# Altium schematic symbol library kmilo17pet-NSC_Switcher.SchLib: 2226 symbols (part 32 of 59)
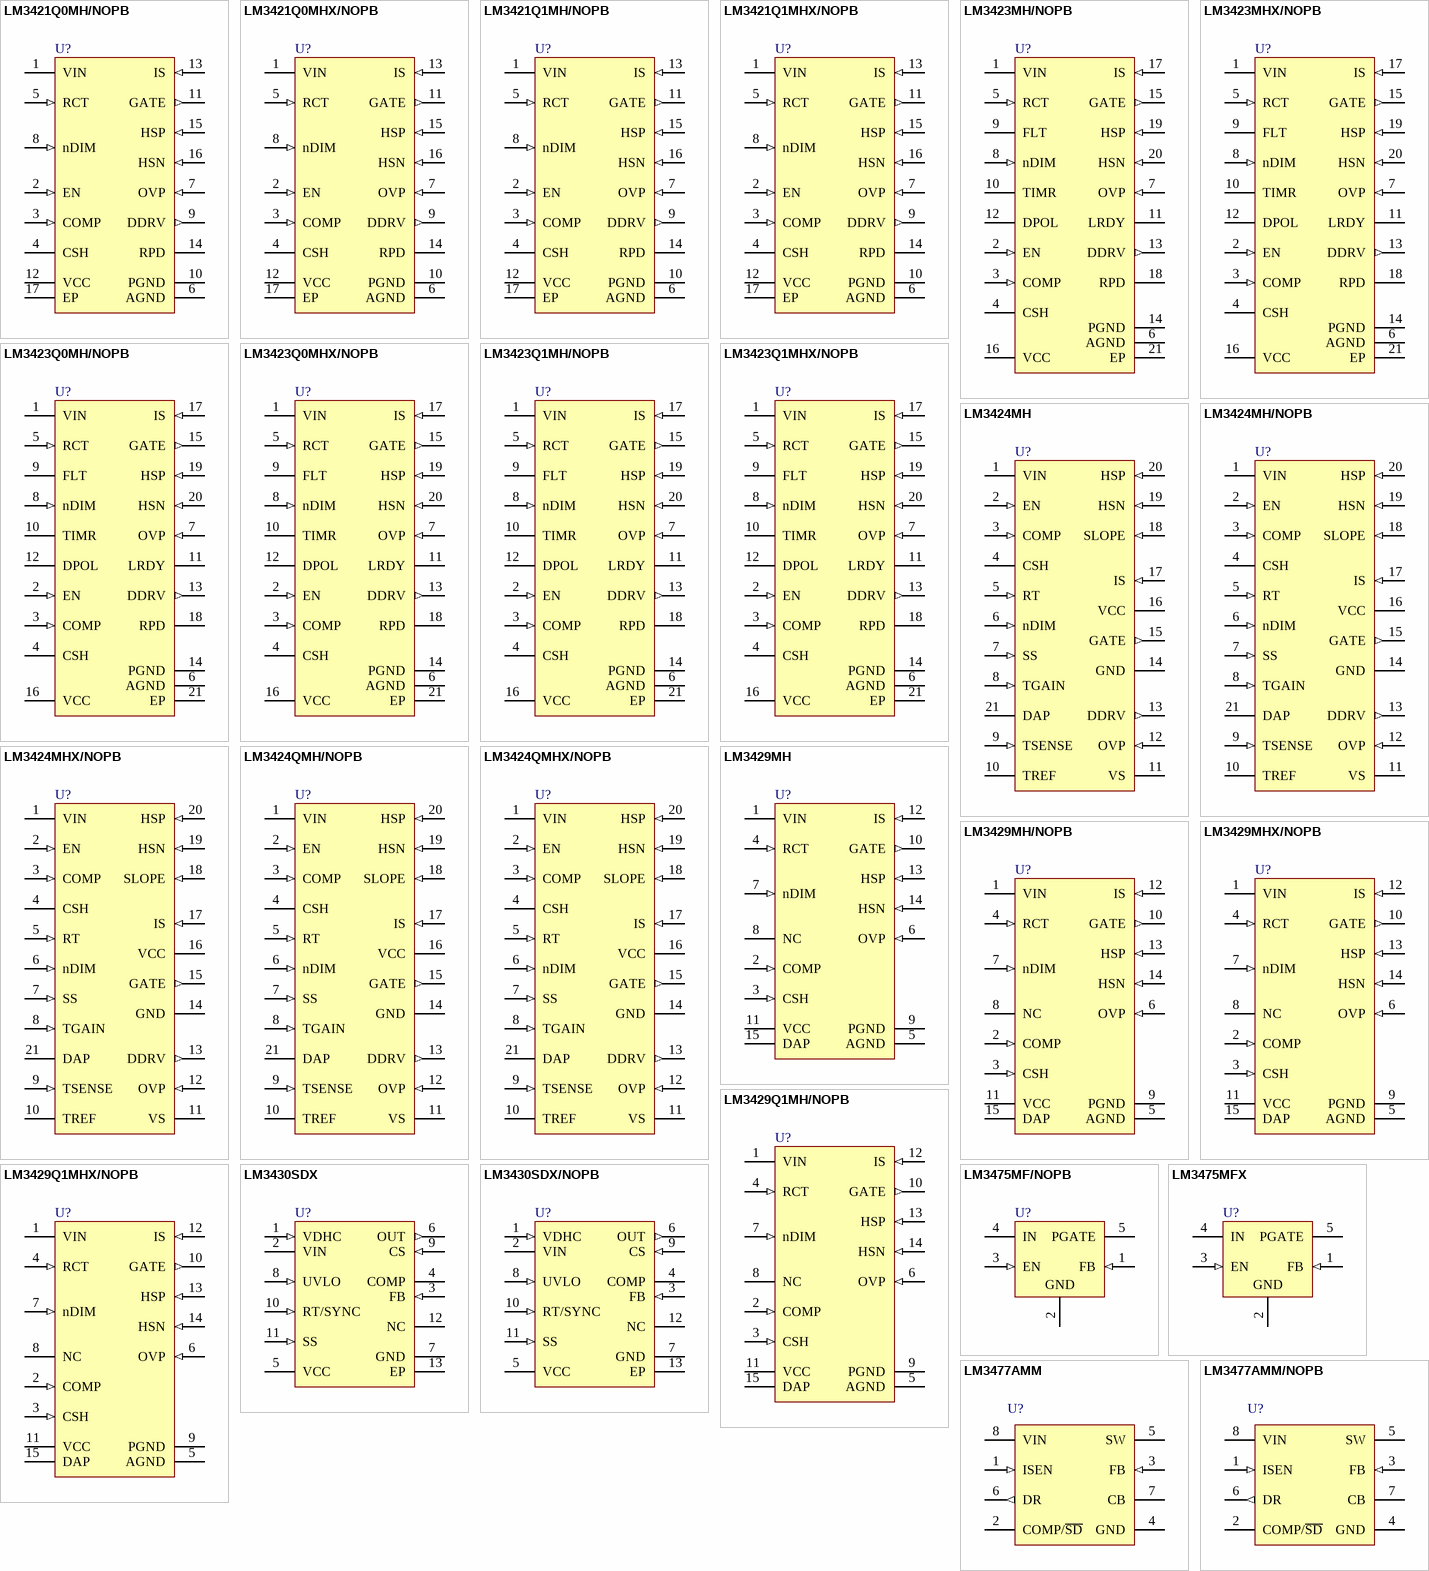
[diagram p100: symbols LM3421Q0MH/NOPB to LM3477AMM/NOPB]

## LM3423MHX/NOPB
designator U?
N-Channel Controllers for Constant Current LED Drivers, 20-pin TSSOP-EP, Pb-Free; PartNumber: LM3423MHX/NOPB; Manufacturer: National Semiconductor; PackageTopMarking: NSUZXYTT*LM3423*MH; PowerWise: Y; CompType: Switcher; DatasheetVersion: Jan-2010; PackageVersion: revC, Jul-2006; PackageReference: MXA20A; PackageDescription: Molded TSSOP, Jedec, 6.5 x 4.4 x 0.9mm Body, 20 Lead, 0.65mm Pitch, Exposed Pad; RoHS: Y; PinCount: 20; High-Reliability: Y; Code_JEDEC: MO-153-ACT; ComponentLink1Description: Manufacturer URL; ComponentLink1URL: http://www.national.com/; ComponentLink2Description: LM3423 Datasheet; ComponentLink2URL: http://www.national.com/ds/LM/LM3423.pdf; ComponentLink3Description: LM3423 Web Page; ComponentLink3URL: http://www.national.com/pf/LM/LM3423.html; ComponentLink4Description: MXA20A Package Page; ComponentLink4URL: http://www.national.com/packaging/folders/mxa20a.html
footprint MXA20A_N (TSOP, 20-Leads, Body 6.5x4.4mm, Pitch 0.65mm, Thermal Pad, IPC Medium Density)
footprint MXA20A_L (TSOP, 20-Leads, Body 6.5x4.4mm, Pitch 0.65mm, Thermal Pad, IPC High Density)
footprint MXA20A_M (TSOP, 20-Leads, Body 6.5x4.4mm, Pitch 0.65mm, Thermal Pad, IPC Low Density)
pins: 1 VIN (power), 2 EN (in), 3 COMP (in), 4 CSH, 5 RCT (in), 6 AGND (power), 7 OVP (in), 8 nDIM (in), 9 FLT (oc), 10 TIMR, 11 LRDY (oc), 12 DPOL, 13 DDRV (out), 14 PGND (power), 15 GATE (out), 16 VCC (power), 17 IS (in), 18 RPD (oc), 19 HSP (in), 20 HSN (in), 21 EP (power)

## LM3423Q0MH/NOPB
designator U?
N-Channel Controllers for Constant Current LED Drivers, 20-pin TSSOP-EP, Pb-Free; PartNumber: LM3423Q0MH/NOPB; Manufacturer: National Semiconductor; PackageTopMarking: NSUZXYTT*LM3423*Q0MH; PowerWise: Y; CompType: Switcher; DatasheetVersion: Jan-2010; PackageVersion: revC, Jul-2006; PackageReference: MXA20A; PackageDescription: Molded TSSOP, Jedec, 6.5 x 4.4 x 0.9mm Body, 20 Lead, 0.65mm Pitch, Exposed Pad; RoHS: Y; PinCount: 20; High-Reliability: Y; Code_JEDEC: MO-153-ACT; ComponentLink1Description: Manufacturer URL; ComponentLink1URL: http://www.national.com/; ComponentLink2Description: LM3423 Datasheet; ComponentLink2URL: http://www.national.com/ds/LM/LM3423.pdf; ComponentLink3Description: LM3423 Web Page; ComponentLink3URL: http://www.national.com/pf/LM/LM3423.html; ComponentLink4Description: MXA20A Package Page; ComponentLink4URL: http://www.national.com/packaging/folders/mxa20a.html
footprint MXA20A_N (TSOP, 20-Leads, Body 6.5x4.4mm, Pitch 0.65mm, Thermal Pad, IPC Medium Density)
footprint MXA20A_L (TSOP, 20-Leads, Body 6.5x4.4mm, Pitch 0.65mm, Thermal Pad, IPC High Density)
footprint MXA20A_M (TSOP, 20-Leads, Body 6.5x4.4mm, Pitch 0.65mm, Thermal Pad, IPC Low Density)
pins: 1 VIN (power), 2 EN (in), 3 COMP (in), 4 CSH, 5 RCT (in), 6 AGND (power), 7 OVP (in), 8 nDIM (in), 9 FLT (oc), 10 TIMR, 11 LRDY (oc), 12 DPOL, 13 DDRV (out), 14 PGND (power), 15 GATE (out), 16 VCC (power), 17 IS (in), 18 RPD (oc), 19 HSP (in), 20 HSN (in), 21 EP (power)

## LM3423Q0MHX/NOPB
designator U?
N-Channel Controllers for Constant Current LED Drivers, 20-pin TSSOP-EP, Pb-Free; PartNumber: LM3423Q0MHX/NOPB; Manufacturer: National Semiconductor; PackageTopMarking: NSUZXYTT*LM3423*Q0MH; PowerWise: Y; CompType: Switcher; DatasheetVersion: Jan-2010; PackageVersion: revC, Jul-2006; PackageReference: MXA20A; PackageDescription: Molded TSSOP, Jedec, 6.5 x 4.4 x 0.9mm Body, 20 Lead, 0.65mm Pitch, Exposed Pad; RoHS: Y; PinCount: 20; High-Reliability: Y; Code_JEDEC: MO-153-ACT; ComponentLink1Description: Manufacturer URL; ComponentLink1URL: http://www.national.com/; ComponentLink2Description: LM3423 Datasheet; ComponentLink2URL: http://www.national.com/ds/LM/LM3423.pdf; ComponentLink3Description: LM3423 Web Page; ComponentLink3URL: http://www.national.com/pf/LM/LM3423.html; ComponentLink4Description: MXA20A Package Page; ComponentLink4URL: http://www.national.com/packaging/folders/mxa20a.html
footprint MXA20A_N (TSOP, 20-Leads, Body 6.5x4.4mm, Pitch 0.65mm, Thermal Pad, IPC Medium Density)
footprint MXA20A_L (TSOP, 20-Leads, Body 6.5x4.4mm, Pitch 0.65mm, Thermal Pad, IPC High Density)
footprint MXA20A_M (TSOP, 20-Leads, Body 6.5x4.4mm, Pitch 0.65mm, Thermal Pad, IPC Low Density)
pins: 1 VIN (power), 2 EN (in), 3 COMP (in), 4 CSH, 5 RCT (in), 6 AGND (power), 7 OVP (in), 8 nDIM (in), 9 FLT (oc), 10 TIMR, 11 LRDY (oc), 12 DPOL, 13 DDRV (out), 14 PGND (power), 15 GATE (out), 16 VCC (power), 17 IS (in), 18 RPD (oc), 19 HSP (in), 20 HSN (in), 21 EP (power)

## LM3423Q1MH/NOPB
designator U?
N-Channel Controllers for Constant Current LED Drivers, 20-pin TSSOP-EP, Pb-Free; PartNumber: LM3423Q1MH/NOPB; Manufacturer: National Semiconductor; PackageTopMarking: NSUZXYTT*LM3423*Q1MH; PowerWise: N; CompType: Switcher; High-Reliability: Y; DatasheetVersion: Jan-2010; PackageVersion: revC, Jul-2006; PackageReference: MXA20A; PackageDescription: Molded TSSOP, Jedec, 6.5 x 4.4 x 0.9mm Body, 20 Lead, 0.65mm Pitch, Exposed Pad; RoHS: Y; PinCount: 20; Code_JEDEC: MO-153-ACT; ComponentLink1Description: Manufacturer URL; ComponentLink1URL: http://www.national.com/; ComponentLink2Description: LM3423 Datasheet; ComponentLink2URL: http://www.national.com/ds/LM/LM3423.pdf; ComponentLink3Description: LM3423 Web Page; ComponentLink3URL: http://www.national.com/pf/LM/LM3423.html; ComponentLink4Description: MXA20A Package Page; ComponentLink4URL: http://www.national.com/packaging/folders/mxa20a.html
footprint MXA20A_N (TSOP, 20-Leads, Body 6.5x4.4mm, Pitch 0.65mm, Thermal Pad, IPC Medium Density)
footprint MXA20A_L (TSOP, 20-Leads, Body 6.5x4.4mm, Pitch 0.65mm, Thermal Pad, IPC High Density)
footprint MXA20A_M (TSOP, 20-Leads, Body 6.5x4.4mm, Pitch 0.65mm, Thermal Pad, IPC Low Density)
pins: 1 VIN (power), 2 EN (in), 3 COMP (in), 4 CSH, 5 RCT (in), 6 AGND (power), 7 OVP (in), 8 nDIM (in), 9 FLT (oc), 10 TIMR, 11 LRDY (oc), 12 DPOL, 13 DDRV (out), 14 PGND (power), 15 GATE (out), 16 VCC (power), 17 IS (in), 18 RPD (oc), 19 HSP (in), 20 HSN (in), 21 EP (power)

## LM3423Q1MHX/NOPB
designator U?
N-Channel Controllers for Constant Current LED Drivers, 20-pin TSSOP-EP, Pb-Free; PartNumber: LM3423Q1MHX/NOPB; Manufacturer: National Semiconductor; PackageTopMarking: NSUZXYTT*LM3423*Q1MH; PowerWise: N; CompType: Switcher; High-Reliability: Y; DatasheetVersion: Jan-2010; PackageVersion: revC, Jul-2006; PackageReference: MXA20A; PackageDescription: Molded TSSOP, Jedec, 6.5 x 4.4 x 0.9mm Body, 20 Lead, 0.65mm Pitch, Exposed Pad; RoHS: Y; PinCount: 20; Code_JEDEC: MO-153-ACT; ComponentLink1Description: Manufacturer URL; ComponentLink1URL: http://www.national.com/; ComponentLink2Description: LM3423 Datasheet; ComponentLink2URL: http://www.national.com/ds/LM/LM3423.pdf; ComponentLink3Description: LM3423 Web Page; ComponentLink3URL: http://www.national.com/pf/LM/LM3423.html; ComponentLink4Description: MXA20A Package Page; ComponentLink4URL: http://www.national.com/packaging/folders/mxa20a.html
footprint MXA20A_N (TSOP, 20-Leads, Body 6.5x4.4mm, Pitch 0.65mm, Thermal Pad, IPC Medium Density)
footprint MXA20A_L (TSOP, 20-Leads, Body 6.5x4.4mm, Pitch 0.65mm, Thermal Pad, IPC High Density)
footprint MXA20A_M (TSOP, 20-Leads, Body 6.5x4.4mm, Pitch 0.65mm, Thermal Pad, IPC Low Density)
pins: 1 VIN (power), 2 EN (in), 3 COMP (in), 4 CSH, 5 RCT (in), 6 AGND (power), 7 OVP (in), 8 nDIM (in), 9 FLT (oc), 10 TIMR, 11 LRDY (oc), 12 DPOL, 13 DDRV (out), 14 PGND (power), 15 GATE (out), 16 VCC (power), 17 IS (in), 18 RPD (oc), 19 HSP (in), 20 HSN (in), 21 EP (power)

## LM3424MH
designator U?
Constant Current N-Channel Controller with Thermal Foldback for Driving LEDs, 20-pin TSSOP-EP; PartNumber: LM3424MH; Manufacturer: National Semiconductor; PackageTopMarking: NSUZXYTT*LM3424*MH; PowerWise: Y; CompType: Switcher; DatasheetVersion: Oct-2009; PackageVersion: revC, Jul-2006; PackageReference: MXA20A; PackageDescription: Molded TSSOP, Jedec, 6.5 x 4.4 x 0.9mm Body, 20 Lead, 0.65mm Pitch, Exposed Pad; RoHS: Y; PinCount: 20; High-Reliability: Y; Code_JEDEC: MO-153-ACT; ComponentLink1Description: Manufacturer URL; ComponentLink1URL: http://www.national.com/; ComponentLink2Description: LM3424 Datasheet; ComponentLink2URL: http://www.national.com/ds/LM/LM3424.pdf; ComponentLink3Description: LM3424 Web Page; ComponentLink3URL: http://www.national.com/pf/LM/LM3424.html; ComponentLink4Description: MXA20A Package Page; ComponentLink4URL: http://www.national.com/packaging/folders/mxa20a.html
footprint MXA20A_N (TSOP, 20-Leads, Body 6.5x4.4mm, Pitch 0.65mm, Thermal Pad, IPC Medium Density)
footprint MXA20A_L (TSOP, 20-Leads, Body 6.5x4.4mm, Pitch 0.65mm, Thermal Pad, IPC High Density)
footprint MXA20A_M (TSOP, 20-Leads, Body 6.5x4.4mm, Pitch 0.65mm, Thermal Pad, IPC Low Density)
pins: 1 VIN (power), 2 EN (in), 3 COMP (in), 4 CSH, 5 RT (in), 6 nDIM (in), 7 SS (in), 8 TGAIN (in), 9 TSENSE (in), 10 TREF, 11 VS (power), 12 OVP (in), 13 DDRV (out), 14 GND (power), 15 GATE (out), 16 VCC (power), 17 IS (in), 18 SLOPE (in), 19 HSN (in), 20 HSP (in), 21 DAP (power)

## LM3424MH/NOPB
designator U?
Constant Current N-Channel Controller with Thermal Foldback for Driving LEDs, 20-pin TSSOP-EP, Pb-Free; PartNumber: LM3424MH/NOPB; Manufacturer: National Semiconductor; PackageTopMarking: NSUZXYTT*LM3424*MH; PowerWise: Y; CompType: Switcher; DatasheetVersion: Oct-2009; PackageVersion: revC, Jul-2006; PackageReference: MXA20A; PackageDescription: Molded TSSOP, Jedec, 6.5 x 4.4 x 0.9mm Body, 20 Lead, 0.65mm Pitch, Exposed Pad; RoHS: Y; PinCount: 20; High-Reliability: Y; Code_JEDEC: MO-153-ACT; ComponentLink1Description: Manufacturer URL; ComponentLink1URL: http://www.national.com/; ComponentLink2Description: LM3424 Datasheet; ComponentLink2URL: http://www.national.com/ds/LM/LM3424.pdf; ComponentLink3Description: LM3424 Web Page; ComponentLink3URL: http://www.national.com/pf/LM/LM3424.html; ComponentLink4Description: MXA20A Package Page; ComponentLink4URL: http://www.national.com/packaging/folders/mxa20a.html
footprint MXA20A_N (TSOP, 20-Leads, Body 6.5x4.4mm, Pitch 0.65mm, Thermal Pad, IPC Medium Density)
footprint MXA20A_L (TSOP, 20-Leads, Body 6.5x4.4mm, Pitch 0.65mm, Thermal Pad, IPC High Density)
footprint MXA20A_M (TSOP, 20-Leads, Body 6.5x4.4mm, Pitch 0.65mm, Thermal Pad, IPC Low Density)
pins: 1 VIN (power), 2 EN (in), 3 COMP (in), 4 CSH, 5 RT (in), 6 nDIM (in), 7 SS (in), 8 TGAIN (in), 9 TSENSE (in), 10 TREF, 11 VS (power), 12 OVP (in), 13 DDRV (out), 14 GND (power), 15 GATE (out), 16 VCC (power), 17 IS (in), 18 SLOPE (in), 19 HSN (in), 20 HSP (in), 21 DAP (power)

## LM3424MHX/NOPB
designator U?
Constant Current N-Channel Controller with Thermal Foldback for Driving LEDs, 20-pin TSSOP-EP, Pb-Free; PartNumber: LM3424MHX/NOPB; Manufacturer: National Semiconductor; PackageTopMarking: NSUZXYTT*LM3424*MH; PowerWise: Y; CompType: Switcher; DatasheetVersion: Oct-2009; PackageVersion: revC, Jul-2006; PackageReference: MXA20A; PackageDescription: Molded TSSOP, Jedec, 6.5 x 4.4 x 0.9mm Body, 20 Lead, 0.65mm Pitch, Exposed Pad; RoHS: Y; PinCount: 20; High-Reliability: Y; Code_JEDEC: MO-153-ACT; ComponentLink1Description: Manufacturer URL; ComponentLink1URL: http://www.national.com/; ComponentLink2Description: LM3424 Datasheet; ComponentLink2URL: http://www.national.com/ds/LM/LM3424.pdf; ComponentLink3Description: LM3424 Web Page; ComponentLink3URL: http://www.national.com/pf/LM/LM3424.html; ComponentLink4Description: MXA20A Package Page; ComponentLink4URL: http://www.national.com/packaging/folders/mxa20a.html
footprint MXA20A_N (TSOP, 20-Leads, Body 6.5x4.4mm, Pitch 0.65mm, Thermal Pad, IPC Medium Density)
footprint MXA20A_L (TSOP, 20-Leads, Body 6.5x4.4mm, Pitch 0.65mm, Thermal Pad, IPC High Density)
footprint MXA20A_M (TSOP, 20-Leads, Body 6.5x4.4mm, Pitch 0.65mm, Thermal Pad, IPC Low Density)
pins: 1 VIN (power), 2 EN (in), 3 COMP (in), 4 CSH, 5 RT (in), 6 nDIM (in), 7 SS (in), 8 TGAIN (in), 9 TSENSE (in), 10 TREF, 11 VS (power), 12 OVP (in), 13 DDRV (out), 14 GND (power), 15 GATE (out), 16 VCC (power), 17 IS (in), 18 SLOPE (in), 19 HSN (in), 20 HSP (in), 21 DAP (power)

## LM3424QMH/NOPB
designator U?
Constant Current N-Channel Controller with Thermal Foldback for Driving LEDs, 20-pin TSSOP-EP, Pb-Free; PartNumber: LM3424QMH/NOPB; Manufacturer: National Semiconductor; PackageTopMarking: NSUZXYTT*LM3424*QMH; PowerWise: Y; CompType: Switcher; DatasheetVersion: Oct-2009; PackageVersion: revC, Jul-2006; PackageReference: MXA20A; PackageDescription: Molded TSSOP, Jedec, 6.5 x 4.4 x 0.9mm Body, 20 Lead, 0.65mm Pitch, Exposed Pad; RoHS: Y; PinCount: 20; High-Reliability: Y; Code_JEDEC: MO-153-ACT; ComponentLink1Description: Manufacturer URL; ComponentLink1URL: http://www.national.com/; ComponentLink2Description: LM3424 Datasheet; ComponentLink2URL: http://www.national.com/ds/LM/LM3424.pdf; ComponentLink3Description: LM3424 Web Page; ComponentLink3URL: http://www.national.com/pf/LM/LM3424.html; ComponentLink4Description: MXA20A Package Page; ComponentLink4URL: http://www.national.com/packaging/folders/mxa20a.html
footprint MXA20A_N (TSOP, 20-Leads, Body 6.5x4.4mm, Pitch 0.65mm, Thermal Pad, IPC Medium Density)
footprint MXA20A_L (TSOP, 20-Leads, Body 6.5x4.4mm, Pitch 0.65mm, Thermal Pad, IPC High Density)
footprint MXA20A_M (TSOP, 20-Leads, Body 6.5x4.4mm, Pitch 0.65mm, Thermal Pad, IPC Low Density)
pins: 1 VIN (power), 2 EN (in), 3 COMP (in), 4 CSH, 5 RT (in), 6 nDIM (in), 7 SS (in), 8 TGAIN (in), 9 TSENSE (in), 10 TREF, 11 VS (power), 12 OVP (in), 13 DDRV (out), 14 GND (power), 15 GATE (out), 16 VCC (power), 17 IS (in), 18 SLOPE (in), 19 HSN (in), 20 HSP (in), 21 DAP (power)

## LM3424QMHX/NOPB
designator U?
Constant Current N-Channel Controller with Thermal Foldback for Driving LEDs, 20-pin TSSOP-EP, Pb-Free; PartNumber: LM3424QMHX/NOPB; Manufacturer: National Semiconductor; PackageTopMarking: NSUZXYTT*LM3424*QMH; PowerWise: Y; CompType: Switcher; DatasheetVersion: Oct-2009; PackageVersion: revC, Jul-2006; PackageReference: MXA20A; PackageDescription: Molded TSSOP, Jedec, 6.5 x 4.4 x 0.9mm Body, 20 Lead, 0.65mm Pitch, Exposed Pad; RoHS: Y; PinCount: 20; High-Reliability: Y; Code_JEDEC: MO-153-ACT; ComponentLink1Description: Manufacturer URL; ComponentLink1URL: http://www.national.com/; ComponentLink2Description: LM3424 Datasheet; ComponentLink2URL: http://www.national.com/ds/LM/LM3424.pdf; ComponentLink3Description: LM3424 Web Page; ComponentLink3URL: http://www.national.com/pf/LM/LM3424.html; ComponentLink4Description: MXA20A Package Page; ComponentLink4URL: http://www.national.com/packaging/folders/mxa20a.html
footprint MXA20A_N (TSOP, 20-Leads, Body 6.5x4.4mm, Pitch 0.65mm, Thermal Pad, IPC Medium Density)
footprint MXA20A_L (TSOP, 20-Leads, Body 6.5x4.4mm, Pitch 0.65mm, Thermal Pad, IPC High Density)
footprint MXA20A_M (TSOP, 20-Leads, Body 6.5x4.4mm, Pitch 0.65mm, Thermal Pad, IPC Low Density)
pins: 1 VIN (power), 2 EN (in), 3 COMP (in), 4 CSH, 5 RT (in), 6 nDIM (in), 7 SS (in), 8 TGAIN (in), 9 TSENSE (in), 10 TREF, 11 VS (power), 12 OVP (in), 13 DDRV (out), 14 GND (power), 15 GATE (out), 16 VCC (power), 17 IS (in), 18 SLOPE (in), 19 HSN (in), 20 HSP (in), 21 DAP (power)

## LM3429MH
designator U?
N-Channel Controller for Constant Current LED Drivers, 14-pin TSSOP-EP; PartNumber: LM3429MH; Manufacturer: National Semiconductor; PackageTopMarking: NSUZXYTT*LM3429*MH; PowerWise: Y; CompType: Switcher; DatasheetVersion: Jan-2010; PackageVersion: revA, Feb-2003; PackageReference: MXA14A; PackageDescription: Molded TSSOP, JEDEC, Exposed Pad, 5.0 x 4.4 x 0.9mm Body, 14 Lead, 0.65mm Pitch; RoHS: Y; PinCount: 14; High-Reliability: Y; Code_JEDEC: MO-153-ABT-1; ComponentLink1Description: Manufacturer URL; ComponentLink1URL: http://www.national.com/; ComponentLink2Description: LM3429 Datasheet; ComponentLink2URL: http://www.national.com/ds/LM/LM3429.pdf; ComponentLink3Description: LM3429 Web Page; ComponentLink3URL: http://www.national.com/pf/LM/LM3429.html; ComponentLink4Description: MXA14A Package Page; ComponentLink4URL: http://www.national.com/packaging/folders/mxa14a.html
footprint MXA14A_N (TSOP, 14-Leads, Body 5x4.4mm, Pitch 0.65mm, Thermal Pad, IPC Medium Density)
footprint MXA14A_L (TSOP, 14-Leads, Body 5x4.4mm, Pitch 0.65mm, Thermal Pad, IPC High Density)
footprint MXA14A_M (TSOP, 14-Leads, Body 5x4.4mm, Pitch 0.65mm, Thermal Pad, IPC Low Density)
pins: 1 VIN (power), 2 COMP (in), 3 CSH (in), 4 RCT (in), 5 AGND (power), 6 OVP (in), 7 nDIM (in), 8 NC, 9 PGND (power), 10 GATE (out), 11 VCC (power), 12 IS (in), 13 HSP (in), 14 HSN (in), 15 DAP (power)

## LM3429MH/NOPB
designator U?
N-Channel Controller for Constant Current LED Drivers, 14-pin TSSOP-EP, Pb-Free; PartNumber: LM3429MH/NOPB; Manufacturer: National Semiconductor; PackageTopMarking: NSUZXYTT*LM3429*MH; PowerWise: Y; CompType: Switcher; DatasheetVersion: Jan-2010; PackageVersion: revA, Feb-2003; PackageReference: MXA14A; PackageDescription: Molded TSSOP, JEDEC, Exposed Pad, 5.0 x 4.4 x 0.9mm Body, 14 Lead, 0.65mm Pitch; RoHS: Y; PinCount: 14; High-Reliability: Y; Code_JEDEC: MO-153-ABT-1; ComponentLink1Description: Manufacturer URL; ComponentLink1URL: http://www.national.com/; ComponentLink2Description: LM3429 Datasheet; ComponentLink2URL: http://www.national.com/ds/LM/LM3429.pdf; ComponentLink3Description: LM3429 Web Page; ComponentLink3URL: http://www.national.com/pf/LM/LM3429.html; ComponentLink4Description: MXA14A Package Page; ComponentLink4URL: http://www.national.com/packaging/folders/mxa14a.html
footprint MXA14A_N (TSOP, 14-Leads, Body 5x4.4mm, Pitch 0.65mm, Thermal Pad, IPC Medium Density)
footprint MXA14A_L (TSOP, 14-Leads, Body 5x4.4mm, Pitch 0.65mm, Thermal Pad, IPC High Density)
footprint MXA14A_M (TSOP, 14-Leads, Body 5x4.4mm, Pitch 0.65mm, Thermal Pad, IPC Low Density)
pins: 1 VIN (power), 2 COMP (in), 3 CSH (in), 4 RCT (in), 5 AGND (power), 6 OVP (in), 7 nDIM (in), 8 NC, 9 PGND (power), 10 GATE (out), 11 VCC (power), 12 IS (in), 13 HSP (in), 14 HSN (in), 15 DAP (power)

## LM3429MHX/NOPB
designator U?
N-Channel Controller for Constant Current LED Drivers, 14-pin TSSOP-EP, Pb-Free; PartNumber: LM3429MHX/NOPB; Manufacturer: National Semiconductor; PackageTopMarking: NSUZXYTT*LM3429*MH; PowerWise: Y; CompType: Switcher; DatasheetVersion: Jan-2010; PackageVersion: revA, Feb-2003; PackageReference: MXA14A; PackageDescription: Molded TSSOP, JEDEC, Exposed Pad, 5.0 x 4.4 x 0.9mm Body, 14 Lead, 0.65mm Pitch; RoHS: Y; PinCount: 14; High-Reliability: Y; Code_JEDEC: MO-153-ABT-1; ComponentLink1Description: Manufacturer URL; ComponentLink1URL: http://www.national.com/; ComponentLink2Description: LM3429 Datasheet; ComponentLink2URL: http://www.national.com/ds/LM/LM3429.pdf; ComponentLink3Description: LM3429 Web Page; ComponentLink3URL: http://www.national.com/pf/LM/LM3429.html; ComponentLink4Description: MXA14A Package Page; ComponentLink4URL: http://www.national.com/packaging/folders/mxa14a.html
footprint MXA14A_N (TSOP, 14-Leads, Body 5x4.4mm, Pitch 0.65mm, Thermal Pad, IPC Medium Density)
footprint MXA14A_L (TSOP, 14-Leads, Body 5x4.4mm, Pitch 0.65mm, Thermal Pad, IPC High Density)
footprint MXA14A_M (TSOP, 14-Leads, Body 5x4.4mm, Pitch 0.65mm, Thermal Pad, IPC Low Density)
pins: 1 VIN (power), 2 COMP (in), 3 CSH (in), 4 RCT (in), 5 AGND (power), 6 OVP (in), 7 nDIM (in), 8 NC, 9 PGND (power), 10 GATE (out), 11 VCC (power), 12 IS (in), 13 HSP (in), 14 HSN (in), 15 DAP (power)

## LM3429Q1MH/NOPB
designator U?
N-Channel Controller for Constant Current LED Drivers, 14-pin TSSOP-EP, Pb-Free; PartNumber: LM3429Q1MH/NOPB; Manufacturer: National Semiconductor; PackageTopMarking: NSUZXYTT*LM3429*Q1MH; PowerWise: N; CompType: Switcher; High-Reliability: Y; DatasheetVersion: Jan-2010; PackageVersion: revA, Feb-2003; PackageReference: MXA14A; PackageDescription: Molded TSSOP, JEDEC, Exposed Pad, 5.0 x 4.4 x 0.9mm Body, 14 Lead, 0.65mm Pitch; RoHS: Y; PinCount: 14; Code_JEDEC: MO-153-ABT-1; ComponentLink1Description: Manufacturer URL; ComponentLink1URL: http://www.national.com/; ComponentLink2Description: LM3429 Datasheet; ComponentLink2URL: http://www.national.com/ds/LM/LM3429.pdf; ComponentLink3Description: LM3429 Web Page; ComponentLink3URL: http://www.national.com/pf/LM/LM3429.html; ComponentLink4Description: MXA14A Package Page; ComponentLink4URL: http://www.national.com/packaging/folders/mxa14a.html
footprint MXA14A_N (TSOP, 14-Leads, Body 5x4.4mm, Pitch 0.65mm, Thermal Pad, IPC Medium Density)
footprint MXA14A_L (TSOP, 14-Leads, Body 5x4.4mm, Pitch 0.65mm, Thermal Pad, IPC High Density)
footprint MXA14A_M (TSOP, 14-Leads, Body 5x4.4mm, Pitch 0.65mm, Thermal Pad, IPC Low Density)
pins: 1 VIN (power), 2 COMP (in), 3 CSH (in), 4 RCT (in), 5 AGND (power), 6 OVP (in), 7 nDIM (in), 8 NC, 9 PGND (power), 10 GATE (out), 11 VCC (power), 12 IS (in), 13 HSP (in), 14 HSN (in), 15 DAP (power)

## LM3429Q1MHX/NOPB
designator U?
N-Channel Controller for Constant Current LED Drivers, 14-pin TSSOP-EP, Pb-Free; PartNumber: LM3429Q1MHX/NOPB; Manufacturer: National Semiconductor; PackageTopMarking: NSUZXYTT*LM3429*Q1MH; PowerWise: N; CompType: Switcher; High-Reliability: Y; DatasheetVersion: Jan-2010; PackageVersion: revA, Feb-2003; PackageReference: MXA14A; PackageDescription: Molded TSSOP, JEDEC, Exposed Pad, 5.0 x 4.4 x 0.9mm Body, 14 Lead, 0.65mm Pitch; RoHS: Y; PinCount: 14; Code_JEDEC: MO-153-ABT-1; ComponentLink1Description: Manufacturer URL; ComponentLink1URL: http://www.national.com/; ComponentLink2Description: LM3429 Datasheet; ComponentLink2URL: http://www.national.com/ds/LM/LM3429.pdf; ComponentLink3Description: LM3429 Web Page; ComponentLink3URL: http://www.national.com/pf/LM/LM3429.html; ComponentLink4Description: MXA14A Package Page; ComponentLink4URL: http://www.national.com/packaging/folders/mxa14a.html
footprint MXA14A_N (TSOP, 14-Leads, Body 5x4.4mm, Pitch 0.65mm, Thermal Pad, IPC Medium Density)
footprint MXA14A_L (TSOP, 14-Leads, Body 5x4.4mm, Pitch 0.65mm, Thermal Pad, IPC High Density)
footprint MXA14A_M (TSOP, 14-Leads, Body 5x4.4mm, Pitch 0.65mm, Thermal Pad, IPC Low Density)
pins: 1 VIN (power), 2 COMP (in), 3 CSH (in), 4 RCT (in), 5 AGND (power), 6 OVP (in), 7 nDIM (in), 8 NC, 9 PGND (power), 10 GATE (out), 11 VCC (power), 12 IS (in), 13 HSP (in), 14 HSN (in), 15 DAP (power)

## LM3430SDX
designator U?
Boost Controller for LED Backlighting, 12-pin LLP; PartNumber: LM3430SDX; Manufacturer: National Semiconductor; PackageTopMarking: ZXYTT*L3430; PowerWise: Y; CompType: Switcher; DatasheetVersion: Jan-2007; PackageVersion: revB, Jul-2008; PackageReference: SDF12A; PackageDescription: LLP, Plastic, Dual, 3 x 3 x 0.8mm Body, 12 Lead, 0.4mm Pitch, No Pullback; RoHS: N; PinCount: 12; High-Reliability: Y; ComponentLink1Description: Manufacturer URL; ComponentLink1URL: http://www.national.com/; ComponentLink2Description: LM3430 Datasheet; ComponentLink2URL: http://www.national.com/ds/LM/LM3430.pdf; ComponentLink3Description: LM3430 Web Page; ComponentLink3URL: http://www.national.com/pf/LM/LM3430.html; ComponentLink4Description: SDF12A Package Page; ComponentLink4URL: http://www.national.com/packaging/folders/sdf12a.html
footprint SDF12A (SON, 12-Leads, Body 3x3mm, Pitch 0.4mm, NSC Recommended)
pins: 1 VDHC (in), 2 VIN (power), 3 FB (in), 4 COMP, 5 VCC (power), 6 OUT (out), 7 GND (power), 8 UVLO (in), 9 CS (in), 10 RT/SYNC (in), 11 SS (in), 12 NC, 13 EP (power)

## LM3430SDX/NOPB
designator U?
Boost Controller for LED Backlighting, 12-pin LLP, Pb-Free; PartNumber: LM3430SDX/NOPB; Manufacturer: National Semiconductor; PackageTopMarking: ZXYTT*L3430; PowerWise: Y; CompType: Switcher; DatasheetVersion: Jan-2007; PackageVersion: revB, Jul-2008; PackageReference: SDF12A; PackageDescription: LLP, Plastic, Dual, 3 x 3 x 0.8mm Body, 12 Lead, 0.4mm Pitch, No Pullback; RoHS: Y; PinCount: 12; High-Reliability: Y; ComponentLink1Description: Manufacturer URL; ComponentLink1URL: http://www.national.com/; ComponentLink2Description: LM3430 Datasheet; ComponentLink2URL: http://www.national.com/ds/LM/LM3430.pdf; ComponentLink3Description: LM3430 Web Page; ComponentLink3URL: http://www.national.com/pf/LM/LM3430.html; ComponentLink4Description: SDF12A Package Page; ComponentLink4URL: http://www.national.com/packaging/folders/sdf12a.html
footprint SDF12A (SON, 12-Leads, Body 3x3mm, Pitch 0.4mm, NSC Recommended)
pins: 1 VDHC (in), 2 VIN (power), 3 FB (in), 4 COMP, 5 VCC (power), 6 OUT (out), 7 GND (power), 8 UVLO (in), 9 CS (in), 10 RT/SYNC (in), 11 SS (in), 12 NC, 13 EP (power)

## LM3475MF/NOPB
designator U?
Hysteretic PFET Buck Controller, 5-pin SOT-23, Pb-Free; PartNumber: LM3475MF/NOPB; Manufacturer: National Semiconductor; PackageTopMarking: S65B*XTT; PowerWise: N; CompType: Switcher; High-Reliability: Y; DatasheetVersion: Jan-2005; PackageVersion: revD, Aug-2008; PackageReference: MF05A; PackageDescription: Molded SOT-23, .115 x .063 x .040 in Body, 5 Lead, .0375 in Pitch; RoHS: Y; PinCount: 5; ComponentLink1Description: Manufacturer URL; ComponentLink1URL: http://www.national.com/; ComponentLink2Description: LM3475 Datasheet; ComponentLink2URL: http://www.national.com/ds/LM/LM3475.pdf; ComponentLink3Description: LM3475 Web Page; ComponentLink3URL: http://www.national.com/pf/LM/LM3475.html; ComponentLink4Description: MF05A Package Page; ComponentLink4URL: http://www.national.com/packaging/folders/mf05a.html
footprint MF05A_N (SOT23, 5-Leads, Body 2.9x1.6mm, Pitch 0.95mm, Lead Span 2.8mm, IPC Medium Density)
footprint MF05A_L (SOT23, 5-Leads, Body 2.9x1.6mm, Pitch 0.95mm, Lead Span 2.8mm, IPC High Density)
footprint MF05A_M (SOT23, 5-Leads, Body 2.9x1.6mm, Pitch 0.95mm, Lead Span 2.8mm, IPC Low Density)
pins: 1 FB (in), 2 GND (power), 3 EN (in), 4 IN (power), 5 PGATE (power)

## LM3475MFX
designator U?
Hysteretic PFET Buck Controller, 5-pin SOT-23; PartNumber: LM3475MFX; Manufacturer: National Semiconductor; PackageTopMarking: S65B*XTT; PowerWise: N; CompType: Switcher; High-Reliability: Y; DatasheetVersion: Jan-2005; PackageVersion: revD, Aug-2008; PackageReference: MF05A; PackageDescription: Molded SOT-23, .115 x .063 x .040 in Body, 5 Lead, .0375 in Pitch; RoHS: N; PinCount: 5; ComponentLink1Description: Manufacturer URL; ComponentLink1URL: http://www.national.com/; ComponentLink2Description: LM3475 Datasheet; ComponentLink2URL: http://www.national.com/ds/LM/LM3475.pdf; ComponentLink3Description: LM3475 Web Page; ComponentLink3URL: http://www.national.com/pf/LM/LM3475.html; ComponentLink4Description: MF05A Package Page; ComponentLink4URL: http://www.national.com/packaging/folders/mf05a.html
footprint MF05A_N (SOT23, 5-Leads, Body 2.9x1.6mm, Pitch 0.95mm, Lead Span 2.8mm, IPC Medium Density)
footprint MF05A_L (SOT23, 5-Leads, Body 2.9x1.6mm, Pitch 0.95mm, Lead Span 2.8mm, IPC High Density)
footprint MF05A_M (SOT23, 5-Leads, Body 2.9x1.6mm, Pitch 0.95mm, Lead Span 2.8mm, IPC Low Density)
pins: 1 FB (in), 2 GND (power), 3 EN (in), 4 IN (power), 5 PGATE (power)

## LM3477AMM
designator U?
High Efficiency High-Side N-Channel Controller for Switching Regulator, 8-pin MSOP; PartNumber: LM3477AMM; Manufacturer: National Semiconductor; PackageTopMarking: ZXTT*S13A; PowerWise: N; CompType: Switcher; High-Reliability: Y; DatasheetVersion: Jul-2004; PackageVersion: revF, Apr-2008; PackageReference: MUA08A; PackageDescription: MINI SOIC, .118 x .118 x .034in, 8 Lead, .0256in Pitch; RoHS: N; PinCount: 8; Code_JEDEC: MO-187-AA; ComponentLink1Description: Manufacturer URL; ComponentLink1URL: http://www.national.com/; ComponentLink2Description: LM3477 Datasheet; ComponentLink2URL: http://www.national.com/ds/LM/LM3477.pdf; ComponentLink3Description: LM3477 Web Page; ComponentLink3URL: http://www.national.com/pf/LM/LM3477.html; ComponentLink4Description: MUA08A Package Page; ComponentLink4URL: http://www.national.com/packaging/folders/mua08a.html
footprint MUA08A_N (TSOP, 8-Leads, Body 3x3mm, Pitch 0.65mm, IPC Medium Density)
footprint MUA08A_L (TSOP, 8-Leads, Body 3x3mm, Pitch 0.65mm, IPC High Density)
footprint MUA08A_M (TSOP, 8-Leads, Body 3x3mm, Pitch 0.65mm, IPC Low Density)
pins: 1 ISEN (in), 2 COMP/~{SD}, 3 FB (in), 4 GND (power), 5 SW (power), 6 DR (out), 7 CB, 8 VIN (power)

## LM3477AMM/NOPB
designator U?
High Efficiency High-Side N-Channel Controller for Switching Regulator, 8-pin MSOP, Pb-Free; PartNumber: LM3477AMM/NOPB; Manufacturer: National Semiconductor; PackageTopMarking: ZXTT*S13A; PowerWise: N; CompType: Switcher; High-Reliability: Y; DatasheetVersion: Jul-2004; PackageVersion: revF, Apr-2008; PackageReference: MUA08A; PackageDescription: MINI SOIC, .118 x .118 x .034in, 8 Lead, .0256in Pitch; RoHS: Y; PinCount: 8; Code_JEDEC: MO-187-AA; ComponentLink1Description: Manufacturer URL; ComponentLink1URL: http://www.national.com/; ComponentLink2Description: LM3477 Datasheet; ComponentLink2URL: http://www.national.com/ds/LM/LM3477.pdf; ComponentLink3Description: LM3477 Web Page; ComponentLink3URL: http://www.national.com/pf/LM/LM3477.html; ComponentLink4Description: MUA08A Package Page; ComponentLink4URL: http://www.national.com/packaging/folders/mua08a.html
footprint MUA08A_N (TSOP, 8-Leads, Body 3x3mm, Pitch 0.65mm, IPC Medium Density)
footprint MUA08A_L (TSOP, 8-Leads, Body 3x3mm, Pitch 0.65mm, IPC High Density)
footprint MUA08A_M (TSOP, 8-Leads, Body 3x3mm, Pitch 0.65mm, IPC Low Density)
pins: 1 ISEN (in), 2 COMP/~{SD}, 3 FB (in), 4 GND (power), 5 SW (power), 6 DR (out), 7 CB, 8 VIN (power)

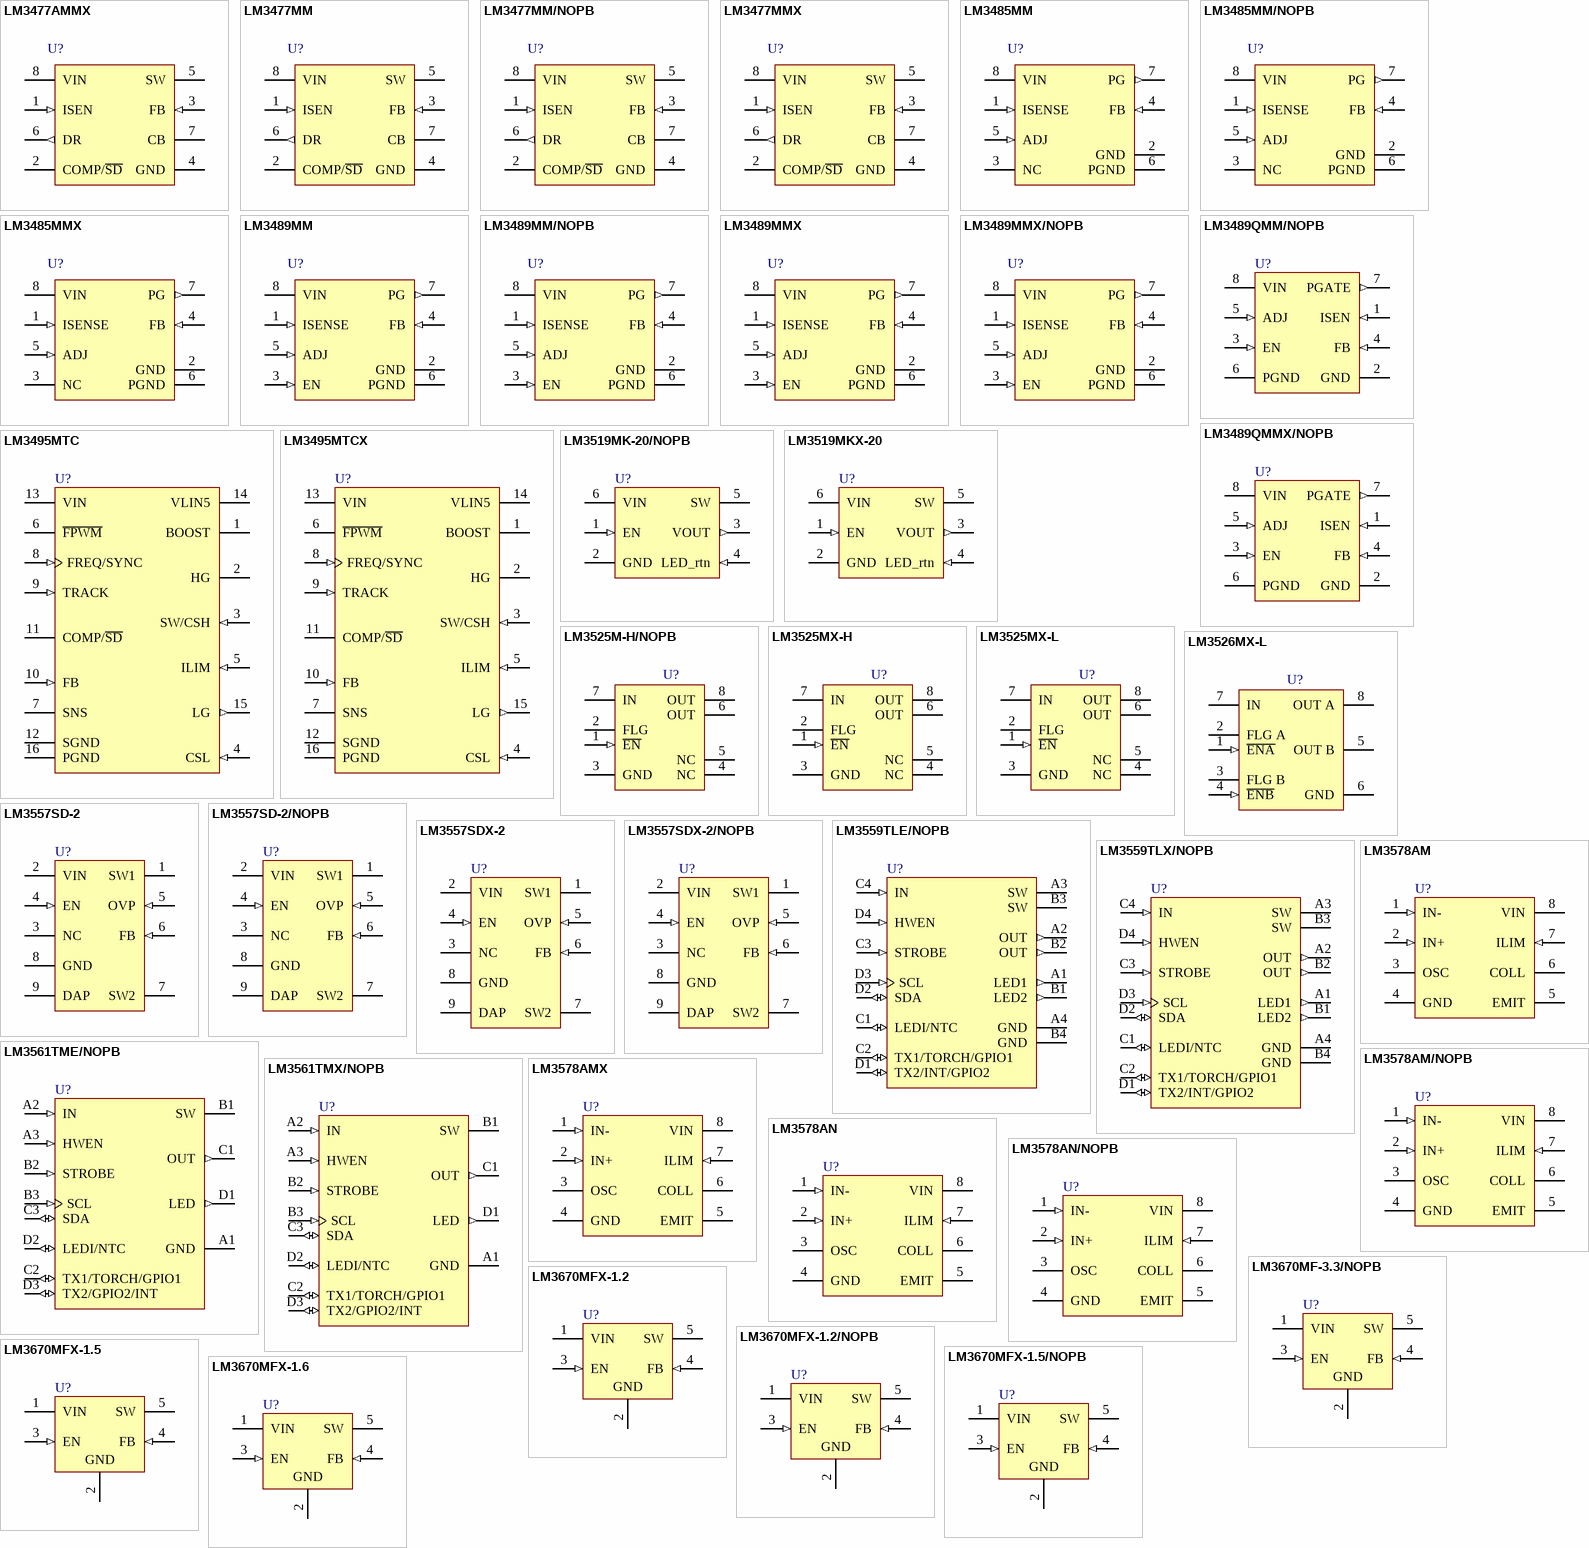
[diagram p35: symbols LM3477AMMX to LM3670MFX-1.6]

## LM3477AMMX
designator U?
High Efficiency High-Side N-Channel Controller for Switching Regulator, 8-pin MSOP; PartNumber: LM3477AMMX; Manufacturer: National Semiconductor; PackageTopMarking: ZXTT*S13A; PowerWise: N; CompType: Switcher; High-Reliability: Y; DatasheetVersion: Jul-2004; PackageVersion: revF, Apr-2008; PackageReference: MUA08A; PackageDescription: MINI SOIC, .118 x .118 x .034in, 8 Lead, .0256in Pitch; RoHS: N; PinCount: 8; Code_JEDEC: MO-187-AA; ComponentLink1Description: Manufacturer URL; ComponentLink1URL: http://www.national.com/; ComponentLink2Description: LM3477 Datasheet; ComponentLink2URL: http://www.national.com/ds/LM/LM3477.pdf; ComponentLink3Description: LM3477 Web Page; ComponentLink3URL: http://www.national.com/pf/LM/LM3477.html; ComponentLink4Description: MUA08A Package Page; ComponentLink4URL: http://www.national.com/packaging/folders/mua08a.html
footprint MUA08A_N (TSOP, 8-Leads, Body 3x3mm, Pitch 0.65mm, IPC Medium Density)
footprint MUA08A_L (TSOP, 8-Leads, Body 3x3mm, Pitch 0.65mm, IPC High Density)
footprint MUA08A_M (TSOP, 8-Leads, Body 3x3mm, Pitch 0.65mm, IPC Low Density)
pins: 1 ISEN (in), 2 COMP/~{SD}, 3 FB (in), 4 GND (power), 5 SW (power), 6 DR (out), 7 CB, 8 VIN (power)

## LM3477MM
designator U?
High Efficiency High-Side N-Channel Controller for Switching Regulator, 8-pin MSOP; PartNumber: LM3477MM; Manufacturer: National Semiconductor; PackageTopMarking: ZXTT*S13B; PowerWise: N; CompType: Switcher; High-Reliability: Y; DatasheetVersion: Jul-2004; PackageVersion: revF, Apr-2008; PackageReference: MUA08A; PackageDescription: MINI SOIC, .118 x .118 x .034in, 8 Lead, .0256in Pitch; RoHS: N; PinCount: 8; Code_JEDEC: MO-187-AA; ComponentLink1Description: Manufacturer URL; ComponentLink1URL: http://www.national.com/; ComponentLink2Description: LM3477 Datasheet; ComponentLink2URL: http://www.national.com/ds/LM/LM3477.pdf; ComponentLink3Description: LM3477 Web Page; ComponentLink3URL: http://www.national.com/pf/LM/LM3477.html; ComponentLink4Description: MUA08A Package Page; ComponentLink4URL: http://www.national.com/packaging/folders/mua08a.html
footprint MUA08A_N (TSOP, 8-Leads, Body 3x3mm, Pitch 0.65mm, IPC Medium Density)
footprint MUA08A_L (TSOP, 8-Leads, Body 3x3mm, Pitch 0.65mm, IPC High Density)
footprint MUA08A_M (TSOP, 8-Leads, Body 3x3mm, Pitch 0.65mm, IPC Low Density)
pins: 1 ISEN (in), 2 COMP/~{SD}, 3 FB (in), 4 GND (power), 5 SW (power), 6 DR (out), 7 CB, 8 VIN (power)

## LM3477MM/NOPB
designator U?
High Efficiency High-Side N-Channel Controller for Switching Regulator, 8-pin MSOP, Pb-Free; PartNumber: LM3477MM/NOPB; Manufacturer: National Semiconductor; PackageTopMarking: ZXTT*S13B; PowerWise: N; CompType: Switcher; High-Reliability: Y; DatasheetVersion: Jul-2004; PackageVersion: revF, Apr-2008; PackageReference: MUA08A; PackageDescription: MINI SOIC, .118 x .118 x .034in, 8 Lead, .0256in Pitch; RoHS: Y; PinCount: 8; Code_JEDEC: MO-187-AA; ComponentLink1Description: Manufacturer URL; ComponentLink1URL: http://www.national.com/; ComponentLink2Description: LM3477 Datasheet; ComponentLink2URL: http://www.national.com/ds/LM/LM3477.pdf; ComponentLink3Description: LM3477 Web Page; ComponentLink3URL: http://www.national.com/pf/LM/LM3477.html; ComponentLink4Description: MUA08A Package Page; ComponentLink4URL: http://www.national.com/packaging/folders/mua08a.html
footprint MUA08A_N (TSOP, 8-Leads, Body 3x3mm, Pitch 0.65mm, IPC Medium Density)
footprint MUA08A_L (TSOP, 8-Leads, Body 3x3mm, Pitch 0.65mm, IPC High Density)
footprint MUA08A_M (TSOP, 8-Leads, Body 3x3mm, Pitch 0.65mm, IPC Low Density)
pins: 1 ISEN (in), 2 COMP/~{SD}, 3 FB (in), 4 GND (power), 5 SW (power), 6 DR (out), 7 CB, 8 VIN (power)

## LM3477MMX
designator U?
High Efficiency High-Side N-Channel Controller for Switching Regulator, 8-pin MSOP; PartNumber: LM3477MMX; Manufacturer: National Semiconductor; PackageTopMarking: ZXTT*S13B; PowerWise: N; CompType: Switcher; High-Reliability: Y; DatasheetVersion: Jul-2004; PackageVersion: revF, Apr-2008; PackageReference: MUA08A; PackageDescription: MINI SOIC, .118 x .118 x .034in, 8 Lead, .0256in Pitch; RoHS: N; PinCount: 8; Code_JEDEC: MO-187-AA; ComponentLink1Description: Manufacturer URL; ComponentLink1URL: http://www.national.com/; ComponentLink2Description: LM3477 Datasheet; ComponentLink2URL: http://www.national.com/ds/LM/LM3477.pdf; ComponentLink3Description: LM3477 Web Page; ComponentLink3URL: http://www.national.com/pf/LM/LM3477.html; ComponentLink4Description: MUA08A Package Page; ComponentLink4URL: http://www.national.com/packaging/folders/mua08a.html
footprint MUA08A_N (TSOP, 8-Leads, Body 3x3mm, Pitch 0.65mm, IPC Medium Density)
footprint MUA08A_L (TSOP, 8-Leads, Body 3x3mm, Pitch 0.65mm, IPC High Density)
footprint MUA08A_M (TSOP, 8-Leads, Body 3x3mm, Pitch 0.65mm, IPC Low Density)
pins: 1 ISEN (in), 2 COMP/~{SD}, 3 FB (in), 4 GND (power), 5 SW (power), 6 DR (out), 7 CB, 8 VIN (power)

## LM3485MM
designator U?
Hysteretic PFET Buck Controller, 8-pin MSOP; PartNumber: LM3485MM; Manufacturer: National Semiconductor; PackageTopMarking: ZXTT*S29B; PowerWise: N; CompType: Switcher; High-Reliability: Y; DatasheetVersion: Sep-2009; PackageVersion: revF, Apr-2008; PackageReference: MUA08A; PackageDescription: MINI SOIC, .118 x .118 x .034in, 8 Lead, .0256in Pitch; RoHS: N; PinCount: 8; Code_JEDEC: MO-187-AA; ComponentLink1Description: Manufacturer URL; ComponentLink1URL: http://www.national.com/; ComponentLink2Description: LM3485 Datasheet; ComponentLink2URL: http://www.national.com/ds/LM/LM3485.pdf; ComponentLink3Description: LM3485 Web Page; ComponentLink3URL: http://www.national.com/pf/LM/LM3485.html; ComponentLink4Description: MUA08A Package Page; ComponentLink4URL: http://www.national.com/packaging/folders/mua08a.html
footprint MUA08A_N (TSOP, 8-Leads, Body 3x3mm, Pitch 0.65mm, IPC Medium Density)
footprint MUA08A_L (TSOP, 8-Leads, Body 3x3mm, Pitch 0.65mm, IPC High Density)
footprint MUA08A_M (TSOP, 8-Leads, Body 3x3mm, Pitch 0.65mm, IPC Low Density)
pins: 1 ISENSE (in), 2 GND (power), 3 NC, 4 FB (in), 5 ADJ (in), 6 PGND (power), 7 PG (out), 8 VIN (power)

## LM3485MM/NOPB
designator U?
Hysteretic PFET Buck Controller, 8-pin MSOP, Pb-Free; PartNumber: LM3485MM/NOPB; Manufacturer: National Semiconductor; PackageTopMarking: ZXTT*S29B; PowerWise: N; CompType: Switcher; High-Reliability: Y; DatasheetVersion: Sep-2009; PackageVersion: revF, Apr-2008; PackageReference: MUA08A; PackageDescription: MINI SOIC, .118 x .118 x .034in, 8 Lead, .0256in Pitch; RoHS: Y; PinCount: 8; Code_JEDEC: MO-187-AA; ComponentLink1Description: Manufacturer URL; ComponentLink1URL: http://www.national.com/; ComponentLink2Description: LM3485 Datasheet; ComponentLink2URL: http://www.national.com/ds/LM/LM3485.pdf; ComponentLink3Description: LM3485 Web Page; ComponentLink3URL: http://www.national.com/pf/LM/LM3485.html; ComponentLink4Description: MUA08A Package Page; ComponentLink4URL: http://www.national.com/packaging/folders/mua08a.html
footprint MUA08A_N (TSOP, 8-Leads, Body 3x3mm, Pitch 0.65mm, IPC Medium Density)
footprint MUA08A_L (TSOP, 8-Leads, Body 3x3mm, Pitch 0.65mm, IPC High Density)
footprint MUA08A_M (TSOP, 8-Leads, Body 3x3mm, Pitch 0.65mm, IPC Low Density)
pins: 1 ISENSE (in), 2 GND (power), 3 NC, 4 FB (in), 5 ADJ (in), 6 PGND (power), 7 PG (out), 8 VIN (power)

## LM3485MMX
designator U?
Hysteretic PFET Buck Controller, 8-pin MSOP; PartNumber: LM3485MMX; Manufacturer: National Semiconductor; PackageTopMarking: ZXTT*S29B; PowerWise: N; CompType: Switcher; High-Reliability: Y; DatasheetVersion: Sep-2009; PackageVersion: revF, Apr-2008; PackageReference: MUA08A; PackageDescription: MINI SOIC, .118 x .118 x .034in, 8 Lead, .0256in Pitch; RoHS: N; PinCount: 8; Code_JEDEC: MO-187-AA; ComponentLink1Description: Manufacturer URL; ComponentLink1URL: http://www.national.com/; ComponentLink2Description: LM3485 Datasheet; ComponentLink2URL: http://www.national.com/ds/LM/LM3485.pdf; ComponentLink3Description: LM3485 Web Page; ComponentLink3URL: http://www.national.com/pf/LM/LM3485.html; ComponentLink4Description: MUA08A Package Page; ComponentLink4URL: http://www.national.com/packaging/folders/mua08a.html
footprint MUA08A_N (TSOP, 8-Leads, Body 3x3mm, Pitch 0.65mm, IPC Medium Density)
footprint MUA08A_L (TSOP, 8-Leads, Body 3x3mm, Pitch 0.65mm, IPC High Density)
footprint MUA08A_M (TSOP, 8-Leads, Body 3x3mm, Pitch 0.65mm, IPC Low Density)
pins: 1 ISENSE (in), 2 GND (power), 3 NC, 4 FB (in), 5 ADJ (in), 6 PGND (power), 7 PG (out), 8 VIN (power)

## LM3489MM
designator U?
Hysteretic PFET Buck Controller with Enable Pin, 8-pin MSOP; PartNumber: LM3489MM; Manufacturer: National Semiconductor; PackageTopMarking: ZXTT*SKSB; PowerWise: N; CompType: Switcher; High-Reliability: Y; DatasheetVersion: Jun-2008; PackageVersion: revF, Apr-2008; PackageReference: MUA08A; PackageDescription: MINI SOIC, .118 x .118 x .034in, 8 Lead, .0256in Pitch; RoHS: N; PinCount: 8; Code_JEDEC: MO-187-AA; ComponentLink1Description: Manufacturer URL; ComponentLink1URL: http://www.national.com/; ComponentLink2Description: LM3489 Datasheet; ComponentLink2URL: http://www.national.com/ds/LM/LM3489.pdf; ComponentLink3Description: LM3489 Web Page; ComponentLink3URL: http://www.national.com/pf/LM/LM3489.html; ComponentLink4Description: MUA08A Package Page; ComponentLink4URL: http://www.national.com/packaging/folders/mua08a.html
footprint MUA08A_N (TSOP, 8-Leads, Body 3x3mm, Pitch 0.65mm, IPC Medium Density)
footprint MUA08A_L (TSOP, 8-Leads, Body 3x3mm, Pitch 0.65mm, IPC High Density)
footprint MUA08A_M (TSOP, 8-Leads, Body 3x3mm, Pitch 0.65mm, IPC Low Density)
pins: 1 ISENSE (in), 2 GND (power), 3 EN (in), 4 FB (in), 5 ADJ (in), 6 PGND (power), 7 PG (out), 8 VIN (power)

## LM3489MM/NOPB
designator U?
Hysteretic PFET Buck Controller with Enable Pin, 8-pin MSOP, Pb-Free; PartNumber: LM3489MM/NOPB; Manufacturer: National Semiconductor; PackageTopMarking: ZXTT*SKSB; PowerWise: N; CompType: Switcher; High-Reliability: Y; DatasheetVersion: Jun-2008; PackageVersion: revF, Apr-2008; PackageReference: MUA08A; PackageDescription: MINI SOIC, .118 x .118 x .034in, 8 Lead, .0256in Pitch; RoHS: Y; PinCount: 8; Code_JEDEC: MO-187-AA; ComponentLink1Description: Manufacturer URL; ComponentLink1URL: http://www.national.com/; ComponentLink2Description: LM3489 Datasheet; ComponentLink2URL: http://www.national.com/ds/LM/LM3489.pdf; ComponentLink3Description: LM3489 Web Page; ComponentLink3URL: http://www.national.com/pf/LM/LM3489.html; ComponentLink4Description: MUA08A Package Page; ComponentLink4URL: http://www.national.com/packaging/folders/mua08a.html
footprint MUA08A_N (TSOP, 8-Leads, Body 3x3mm, Pitch 0.65mm, IPC Medium Density)
footprint MUA08A_L (TSOP, 8-Leads, Body 3x3mm, Pitch 0.65mm, IPC High Density)
footprint MUA08A_M (TSOP, 8-Leads, Body 3x3mm, Pitch 0.65mm, IPC Low Density)
pins: 1 ISENSE (in), 2 GND (power), 3 EN (in), 4 FB (in), 5 ADJ (in), 6 PGND (power), 7 PG (out), 8 VIN (power)

## LM3489MMX
designator U?
Hysteretic PFET Buck Controller with Enable Pin, 8-pin MSOP; PartNumber: LM3489MMX; Manufacturer: National Semiconductor; PackageTopMarking: ZXTT*SKSB; PowerWise: N; CompType: Switcher; High-Reliability: Y; DatasheetVersion: Jun-2008; PackageVersion: revF, Apr-2008; PackageReference: MUA08A; PackageDescription: MINI SOIC, .118 x .118 x .034in, 8 Lead, .0256in Pitch; RoHS: N; PinCount: 8; Code_JEDEC: MO-187-AA; ComponentLink1Description: Manufacturer URL; ComponentLink1URL: http://www.national.com/; ComponentLink2Description: LM3489 Datasheet; ComponentLink2URL: http://www.national.com/ds/LM/LM3489.pdf; ComponentLink3Description: LM3489 Web Page; ComponentLink3URL: http://www.national.com/pf/LM/LM3489.html; ComponentLink4Description: MUA08A Package Page; ComponentLink4URL: http://www.national.com/packaging/folders/mua08a.html
footprint MUA08A_N (TSOP, 8-Leads, Body 3x3mm, Pitch 0.65mm, IPC Medium Density)
footprint MUA08A_L (TSOP, 8-Leads, Body 3x3mm, Pitch 0.65mm, IPC High Density)
footprint MUA08A_M (TSOP, 8-Leads, Body 3x3mm, Pitch 0.65mm, IPC Low Density)
pins: 1 ISENSE (in), 2 GND (power), 3 EN (in), 4 FB (in), 5 ADJ (in), 6 PGND (power), 7 PG (out), 8 VIN (power)

## LM3489MMX/NOPB
designator U?
Hysteretic PFET Buck Controller with Enable Pin, 8-pin MSOP, Pb-Free; PartNumber: LM3489MMX/NOPB; Manufacturer: National Semiconductor; PackageTopMarking: ZXTT*SKSB; PowerWise: N; CompType: Switcher; High-Reliability: Y; DatasheetVersion: Jun-2008; PackageVersion: revF, Apr-2008; PackageReference: MUA08A; PackageDescription: MINI SOIC, .118 x .118 x .034in, 8 Lead, .0256in Pitch; RoHS: Y; PinCount: 8; Code_JEDEC: MO-187-AA; ComponentLink1Description: Manufacturer URL; ComponentLink1URL: http://www.national.com/; ComponentLink2Description: LM3489 Datasheet; ComponentLink2URL: http://www.national.com/ds/LM/LM3489.pdf; ComponentLink3Description: LM3489 Web Page; ComponentLink3URL: http://www.national.com/pf/LM/LM3489.html; ComponentLink4Description: MUA08A Package Page; ComponentLink4URL: http://www.national.com/packaging/folders/mua08a.html
footprint MUA08A_N (TSOP, 8-Leads, Body 3x3mm, Pitch 0.65mm, IPC Medium Density)
footprint MUA08A_L (TSOP, 8-Leads, Body 3x3mm, Pitch 0.65mm, IPC High Density)
footprint MUA08A_M (TSOP, 8-Leads, Body 3x3mm, Pitch 0.65mm, IPC Low Density)
pins: 1 ISENSE (in), 2 GND (power), 3 EN (in), 4 FB (in), 5 ADJ (in), 6 PGND (power), 7 PG (out), 8 VIN (power)

## LM3489QMM/NOPB
designator U?
Hysteretic PFET Buck Controller with Enable Pin, 8-pin MSOP, Pb-Free; PartNumber: LM3489QMM/NOPB; Manufacturer: National Semiconductor; PackageTopMarking: ZXTT*STEB; PowerWise: N; CompType: Switcher; High-Reliability: Y; DatasheetVersion: Jun-2008; PackageVersion: revF, Apr-2008; PackageReference: MUA08A; PackageDescription: MINI SOIC, .118 x .118 x .034in, 8 Lead, .0256in Pitch; RoHS: Y; PinCount: 8; Code_JEDEC: MO-187-AA; ComponentLink1Description: Manufacturer URL; ComponentLink1URL: http://www.national.com/; ComponentLink2Description: LM3489 Datasheet; ComponentLink2URL: http://www.national.com/ds/LM/LM3489.pdf; ComponentLink3Description: LM3489 Web Page; ComponentLink3URL: http://www.national.com/pf/LM/LM3489.html; ComponentLink4Description: MUA08A Package Page; ComponentLink4URL: http://www.national.com/packaging/folders/mua08a.html
footprint MUA08A_N (TSOP, 8-Leads, Body 3x3mm, Pitch 0.65mm, IPC Medium Density)
footprint MUA08A_L (TSOP, 8-Leads, Body 3x3mm, Pitch 0.65mm, IPC High Density)
footprint MUA08A_M (TSOP, 8-Leads, Body 3x3mm, Pitch 0.65mm, IPC Low Density)
pins: 1 ISEN (in), 2 GND (power), 3 EN (in), 4 FB (in), 5 ADJ (in), 6 PGND (power), 7 PGATE (out), 8 VIN (power)

## LM3489QMMX/NOPB
designator U?
Hysteretic PFET Buck Controller with Enable Pin, 8-pin MSOP, Pb-Free; PartNumber: LM3489QMMX/NOPB; Manufacturer: National Semiconductor; PackageTopMarking: ZXTT*STEB; PowerWise: N; CompType: Switcher; High-Reliability: Y; DatasheetVersion: Jun-2008; PackageVersion: revF, Apr-2008; PackageReference: MUA08A; PackageDescription: MINI SOIC, .118 x .118 x .034in, 8 Lead, .0256in Pitch; RoHS: Y; PinCount: 8; Code_JEDEC: MO-187-AA; ComponentLink1Description: Manufacturer URL; ComponentLink1URL: http://www.national.com/; ComponentLink2Description: LM3489 Datasheet; ComponentLink2URL: http://www.national.com/ds/LM/LM3489.pdf; ComponentLink3Description: LM3489 Web Page; ComponentLink3URL: http://www.national.com/pf/LM/LM3489.html; ComponentLink4Description: MUA08A Package Page; ComponentLink4URL: http://www.national.com/packaging/folders/mua08a.html
footprint MUA08A_N (TSOP, 8-Leads, Body 3x3mm, Pitch 0.65mm, IPC Medium Density)
footprint MUA08A_L (TSOP, 8-Leads, Body 3x3mm, Pitch 0.65mm, IPC High Density)
footprint MUA08A_M (TSOP, 8-Leads, Body 3x3mm, Pitch 0.65mm, IPC Low Density)
pins: 1 ISEN (in), 2 GND (power), 3 EN (in), 4 FB (in), 5 ADJ (in), 6 PGND (power), 7 PGATE (out), 8 VIN (power)

## LM3495MTC
designator U?
Emulated Peak Current Mode Buck Controller for Low Output Voltage, 16-pin TSSOP; PartNumber: LM3495MTC; Manufacturer: National Semiconductor; PackageTopMarking: NSUZXYTT*LM3495*MTC; PowerWise: Y; CompType: Switcher; DatasheetVersion: Nov-2007; PackageVersion: revD, Jun-2003; PackageReference: MTC16; PackageDescription: Molded TSSOP, Jedec, 5 x 4.4 x 0.9mm Body, 16 Lead, 0.65mm Pitch; RoHS: N; PinCount: 16; High-Reliability: Y; Code_JEDEC: MO-153-AB; ComponentLink1Description: Manufacturer URL; ComponentLink1URL: http://www.national.com/; ComponentLink2Description: LM3495 Datasheet; ComponentLink2URL: http://www.national.com/ds/LM/LM3495.pdf; ComponentLink3Description: LM3495 Web Page; ComponentLink3URL: http://www.national.com/pf/LM/LM3495.html; ComponentLink4Description: MTC16 Package Page; ComponentLink4URL: http://www.national.com/packaging/folders/mtc16.html
footprint MTC16_N (TSOP, 16-Leads, Body 5x4.4mm, Pitch 0.65mm, IPC Medium Density)
footprint MTC16_L (TSOP, 16-Leads, Body 5x4.4mm, Pitch 0.65mm, IPC High Density)
footprint MTC16_M (TSOP, 16-Leads, Body 5x4.4mm, Pitch 0.65mm, IPC Low Density)
pins: 1 BOOST (power), 2 HG (power), 3 SW/CSH (in), 4 CSL (in), 5 ILIM (in), 6 ~{FPWM}, 7 SNS, 8 FREQ/SYNC (in), 9 TRACK (in), 10 FB (in), 11 COMP/~{SD}, 12 SGND (power), 13 VIN (power), 14 VLIN5 (power), 15 LG (out), 16 PGND (power)

## LM3495MTCX
designator U?
Emulated Peak Current Mode Buck Controller for Low Output Voltage, 16-pin TSSOP; PartNumber: LM3495MTCX; Manufacturer: National Semiconductor; PackageTopMarking: NSUZXYTT*LM3495*MTC; PowerWise: Y; CompType: Switcher; DatasheetVersion: Nov-2007; PackageVersion: revD, Jun-2003; PackageReference: MTC16; PackageDescription: Molded TSSOP, Jedec, 5 x 4.4 x 0.9mm Body, 16 Lead, 0.65mm Pitch; RoHS: N; PinCount: 16; High-Reliability: Y; Code_JEDEC: MO-153-AB; ComponentLink1Description: Manufacturer URL; ComponentLink1URL: http://www.national.com/; ComponentLink2Description: LM3495 Datasheet; ComponentLink2URL: http://www.national.com/ds/LM/LM3495.pdf; ComponentLink3Description: LM3495 Web Page; ComponentLink3URL: http://www.national.com/pf/LM/LM3495.html; ComponentLink4Description: MTC16 Package Page; ComponentLink4URL: http://www.national.com/packaging/folders/mtc16.html
footprint MTC16_N (TSOP, 16-Leads, Body 5x4.4mm, Pitch 0.65mm, IPC Medium Density)
footprint MTC16_L (TSOP, 16-Leads, Body 5x4.4mm, Pitch 0.65mm, IPC High Density)
footprint MTC16_M (TSOP, 16-Leads, Body 5x4.4mm, Pitch 0.65mm, IPC Low Density)
pins: 1 BOOST (power), 2 HG (power), 3 SW/CSH (in), 4 CSL (in), 5 ILIM (in), 6 ~{FPWM}, 7 SNS, 8 FREQ/SYNC (in), 9 TRACK (in), 10 FB (in), 11 COMP/~{SD}, 12 SGND (power), 13 VIN (power), 14 VLIN5 (power), 15 LG (out), 16 PGND (power)

## LM3519MK-20/NOPB
designator U?
High Frequency Boost White LED Driver with High-Speed PWM Brightness Control, 6-pin Tiny SOT23, Pb-Free; PartNumber: LM3519MK-20/NOPB; Manufacturer: National Semiconductor; PackageTopMarking: D52B*XTT; PowerWise: Y; CompType: Switcher; DatasheetVersion: Sep-2005; PackageVersion: revE, Nov-2008; PackageReference: MK06A; PackageDescription: Molded TSOT, 2.97 x 1.65 x 0.87mm Body, 6 Lead, 0.95mm Pitch; RoHS: Y; PinCount: 6; High-Reliability: Y; Code_JEDEC: MO-193-AA; Code_IPC: SOT26A-6; ComponentLink1Description: Manufacturer URL; ComponentLink1URL: http://www.national.com/; ComponentLink2Description: LM3519 Datasheet; ComponentLink2URL: http://www.national.com/ds/LM/LM3519.pdf; ComponentLink3Description: LM3519 Web Page; ComponentLink3URL: http://www.national.com/pf/LM/LM3519.html; ComponentLink4Description: MK06A Package Page; ComponentLink4URL: http://www.national.com/packaging/folders/mk06a.html
footprint MK06A_N (SOT23, 6-Leads, Body 3.0x1.7mm, Pitch 0.95mm, Lead Span 2.9mm, IPC Medium Density)
footprint MK06A_L (SOT23, 6-Leads, Body 3.0x1.7mm, Pitch 0.95mm, Lead Span 2.9mm, IPC High Density)
footprint MK06A_M (SOT23, 6-Leads, Body 3.0x1.7mm, Pitch 0.95mm, Lead Span 2.9mm, IPC Low Density)
pins: 1 EN (in), 2 GND (power), 3 VOUT (out), 4 LED_rtn (in), 5 SW (power), 6 VIN (power)